# Altium footprint library SW_KC52A30.001NPS.PcbLib: 1 footprints
Each footprint in its own frame and in the unit in brackets; x right, y up, seen from the top. Pads: shape width x height; smd on the part's side, far side on the other; paste and mask are expansions set on the pad; w line width, h text height; cw(c..) or ccw(c..) is an arc to the next point about the centre after c.
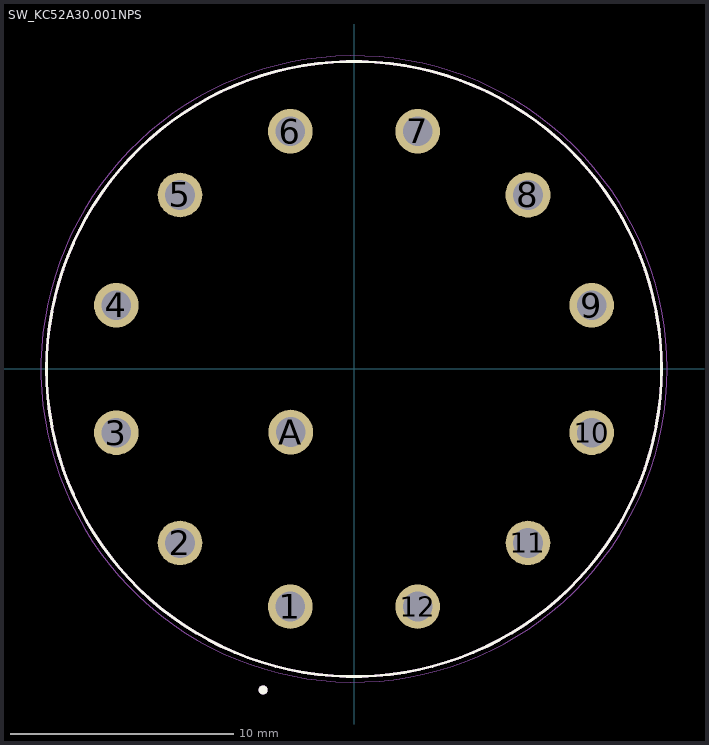
[diagram p0: the footprint, top view; thin cyan lines are the x and y axes]

## SW_KC52A30.001NPS [mm]
height 44.2
pads (13):
  round 1.995 hole 1.33: 1(-2.847,-10.625) 2(-7.778,-7.778) 3(-10.625,-2.847) 4(-10.625,2.847) 5(-7.778,7.778) 6(-2.847,10.625) 7(2.847,10.625) 9(10.625,2.847) 10(10.625,-2.847) 11(7.778,-7.778) 12(2.847,-10.625)
  round 2.01 hole 1.34: 8(7.778,7.778) A(-2.828,-2.828)
Top Overlay:
  circle w0.127: c0,0 r13.75
  circle w0.2: c-4.064,-14.351 r0.1
Mechanical 13:
  circle w0.2: c-4.064,-14.351 r0.1
  circle w0.127: c0,0 r13.75
Mechanical 15:
  circle w0.05: c0,0 r14
3D body "step_temp.STEP": height 52.2, standoff -3.7, extent -13,-13 13,13